# Altium footprint library PowerSelector.PcbLib: 1 footprints
Each footprint in its own frame and in the unit in brackets; x right, y up, seen from the top. Pads: shape width x height; smd on the part's side, far side on the other; paste and mask are expansions set on the pad; w line width, h text height; cw(c..) or ccw(c..) is an arc to the next point about the centre after c.
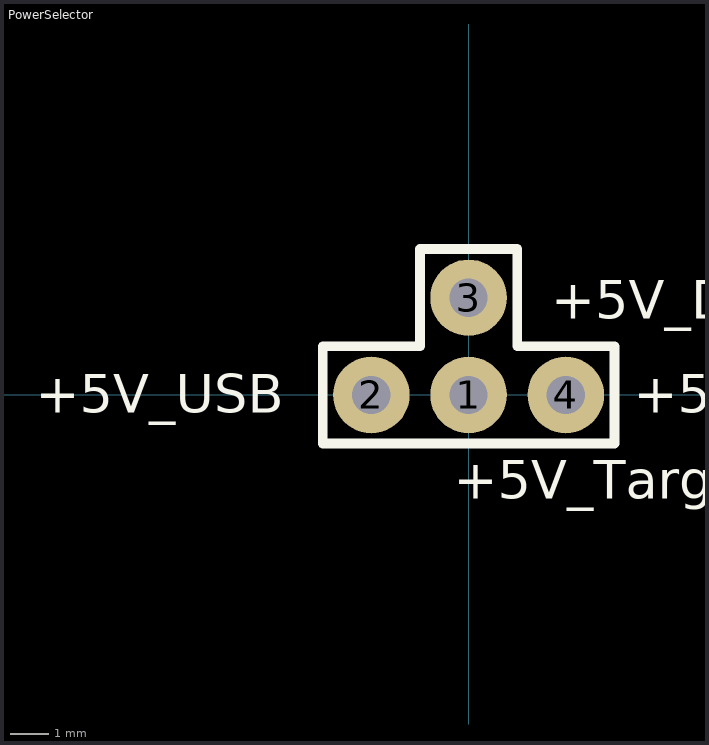
[diagram p0: the footprint, top view; thin cyan lines are the x and y axes]

## PowerSelector [mm] "T-shaped selector for choosing the target MCU power source."
pads (4):
  round 2 hole 1: 1(0,0) 2(-2.54,0) 3(0,2.54) 4(2.54,0)
Top Overlay:
  lines w0.254: -3.81,-1.27 -3.81,1.27 -1.27,1.27 -1.27,3.81 1.27,3.81 1.27,1.27 3.81,1.27 3.81,-1.27 -3.81,-1.27
  text "+5V_Target" at -0.381,-2.715 h1
  text "+5V_USB" at -11.303,-0.468 h1
  text "+5V_Dap" at 2.159,1.984 h1
  text "+5V_Vin" at 4.318,-0.468 h1